# Altium schematic symbol library ip_phone.SchLib: 62 symbols
Pins are listed as number, name and electrical type; pins without a type are passive.

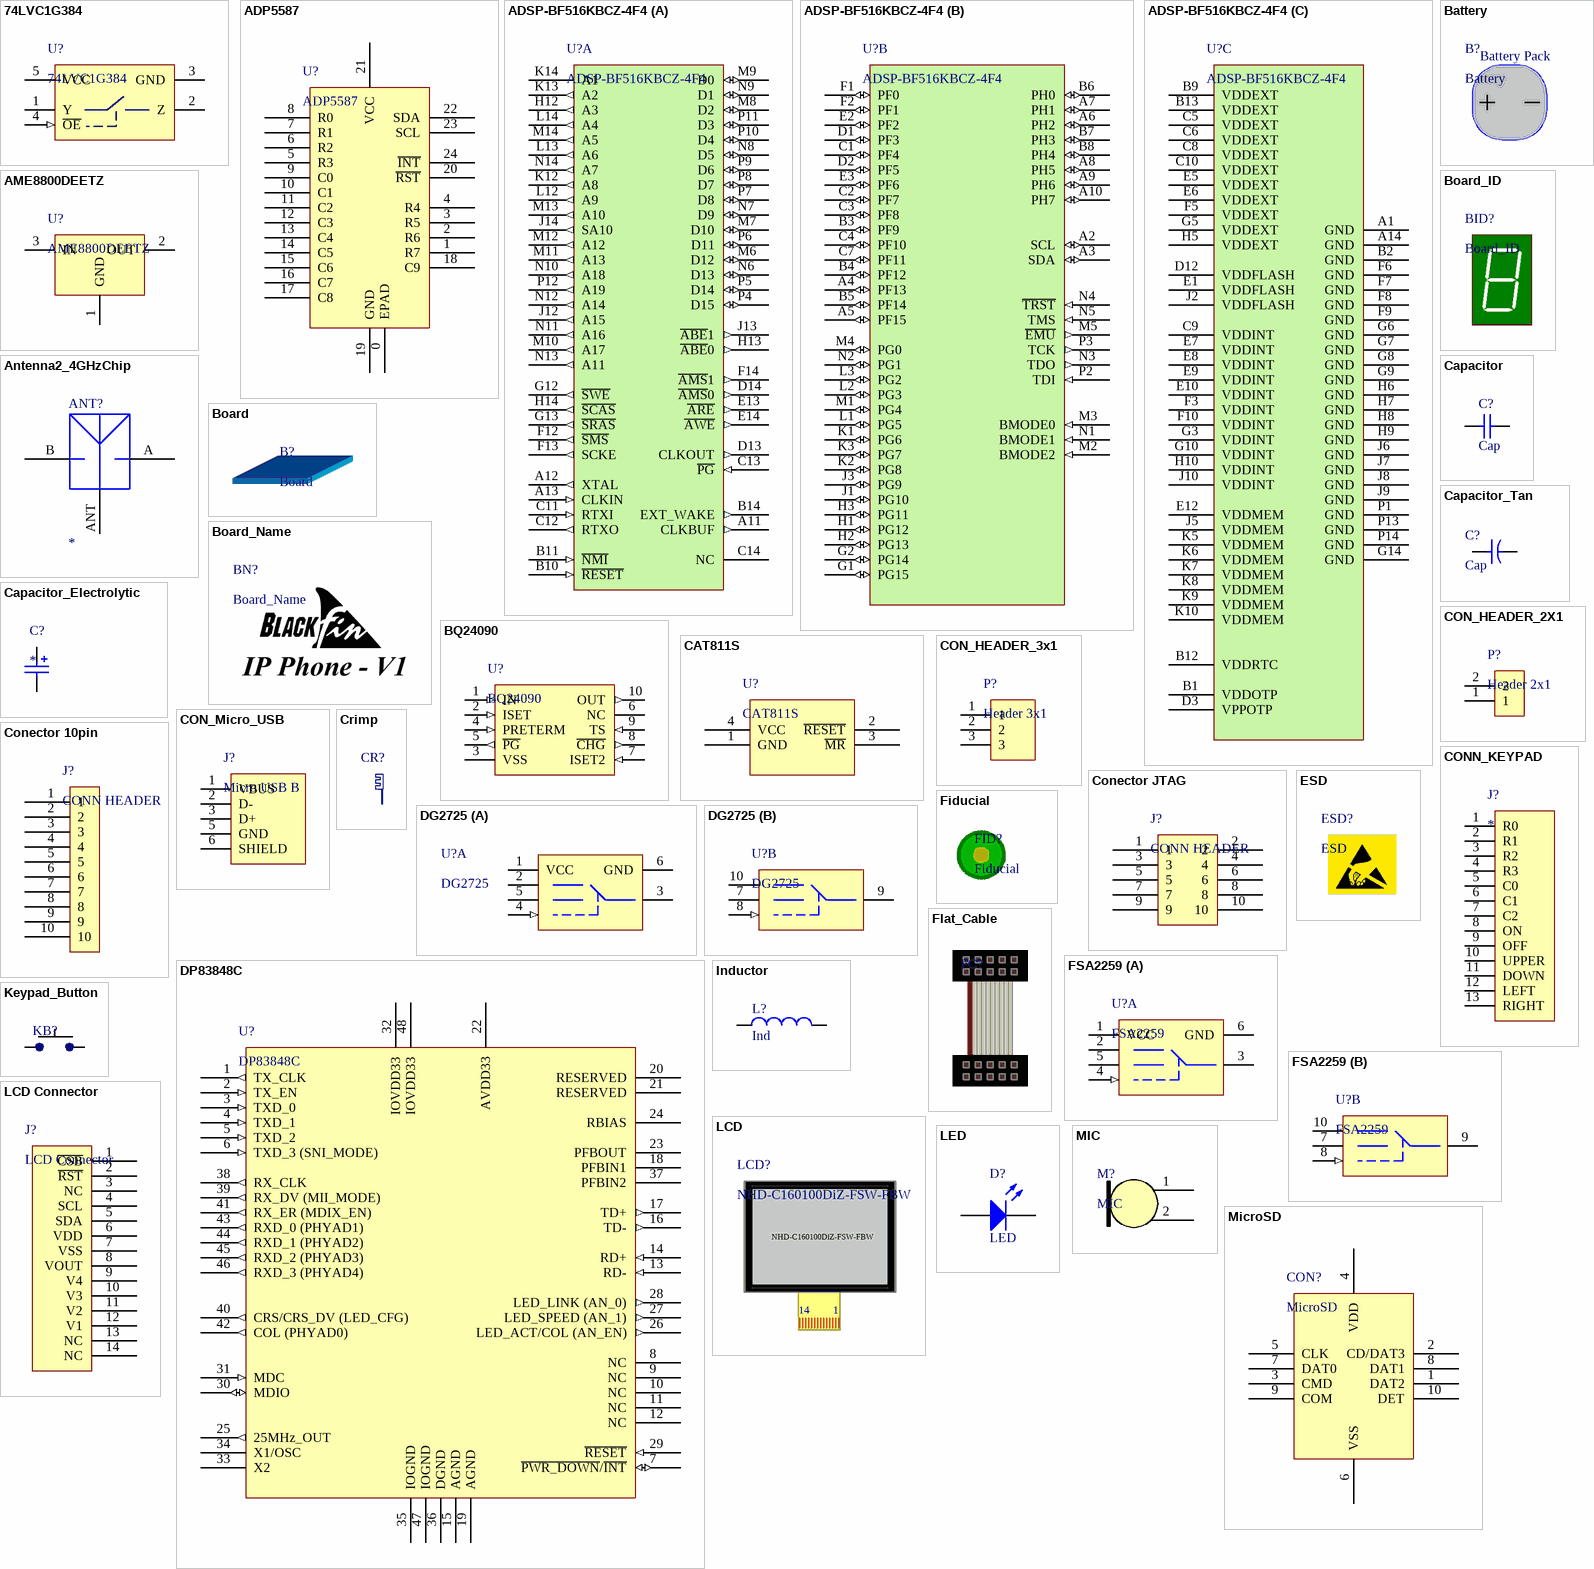
[diagram p0: symbols 74LVC1G384 to MicroSD]

## 74LVC1G384
designator U?
Low Voltage SPST Analog Switch; eVendorPart#: 771-LVC1G384GV125; Part#: 74LVC1G384GV,125; Manufacturer: NXP Semiconductors; eVendor: Mouser; eVendorPrice: 0,07; MSRP: 0,046; MOQ: 1000
footprint SOT753 (SOT23, 5-Leads, Body 3,1x3,0mm (max), Pitch 0,95mm, IPC Medium Density)
pins: 1 Y, 2 Z, 3 GND (power), 4 ~{OE} (in), 5 VCC (power)

## ADP5587
designator U?
IC Expander/Keyboard Controller; eVendorPart#: ADP5587ACPZ-R7CT-ND; Part#: ADP5587ACPZ-R7; Manufacturer: Analog Devices; eVendor: Digikey; MSRP: 1,725; eVendorPrice: 3,45; MOQ: 1000
footprint QFN-24 (ADP5588)
pins: 0 EPAD, 1 R7, 2 R6, 3 R5, 4 R4, 5 R3, 6 R2, 7 R1, 8 R0, 9 C0, 10 C1, 11 C2, 12 C3, 13 C4, 14 C5, 15 C6, 16 C7, 17 C8, 18 C9, 19 GND, 20 ~{RST}, 21 VCC, 22 SDA, 23 SCL, 24 ~{INT}

## ADSP-BF516KBCZ-4F4
designator U?
Low Power Blackfin with Advanced Embedded Connectivity; Manufacturer: Analog Device; eVendor: Avnet; eVendorPrice: 19,42; MSRP: 14,15; eVendorPart#: ADSP-BF516KBCZ-4F4; MOQ: 500; Part#: ADSP-BF516KBCZ-4F4
footprint BGA168 (BGA, 168-Leads, Body 12,0x12,0mm,  Pitch 0,80mm)
part A pins: A11 CLKBUF (out), A12 XTAL (out), A13 CLKIN (in), B10 ~{RESET} (in), B11 ~{NMI} (in), B14 EXT_WAKE (out), C11 RTXI (in), C12 RTXO (out), C13 ~{PG} (in), C14 NC, D13 CLKOUT (out), D14 ~{AMS}0 (out), E13 ~{ARE} (out), E14 ~{AWE} (out), F12 ~{SMS} (out), F13 SCKE (out), F14 ~{AMS}1 (out), G12 ~{SWE} (out), G13 ~{SRAS} (out), H12 A3 (out), H13 ~{ABE}0 (out), H14 ~{SCAS} (out), J12 A15 (out), J13 ~{ABE}1 (out), J14 SA10 (out), K12 A8 (out), K13 A2 (out), K14 A1, L12 A9 (out), L13 A6 (out), L14 A4 (out), M6 D12 (io), M7 D10 (io), M8 D2 (io), M9 D0 (io), M10 A17 (out), M11 A13 (out), M12 A12 (out), M13 A10 (out), M14 A5 (out), N6 D13 (io), N7 D9 (io), N8 D5 (io), N9 D1 (io), N10 A18 (out), N11 A16 (out), N12 A14 (out), N13 A11 (out), N14 A7 (out), P4 D15 (io), P5 D14 (io), P6 D11 (io), P7 D8 (io), P8 D7 (io), P9 D6 (io), P10 D4 (io), P11 D3 (io), P12 A19 (out)
part B pins: A2 SCL (io), A3 SDA (io), A4 PF13 (io), A5 PF15 (io), A6 PH2 (io), A7 PH1 (io), A8 PH5 (io), A9 PH6 (io), A10 PH7 (io), B3 PF9 (io), B4 PF12 (io), B5 PF14 (io), B6 PH0 (io), B7 PH3 (io), B8 PH4 (io), C1 PF4 (io), C2 PF7 (io), C3 PF8 (io), C4 PF10 (io), C7 PF11 (io), D1 PF3 (io), D2 PF5 (io), E2 PF2 (io), E3 PF6 (io), F1 PF0 (io), F2 PF1 (io), G1 PG15 (io), G2 PG14 (io), H1 PG12 (io), H2 PG13 (io), H3 PG11 (io), J1 PG10 (io), J3 PG9 (io), K1 PG6 (io), K2 PG8 (io), K3 PG7 (io), L1 PG5 (io), L2 PG3 (io), L3 PG2 (io), M1 PG4 (io), M2 BMODE2 (in), M3 BMODE0 (in), M4 PG0 (io), M5 ~{EMU} (out), N1 BMODE1 (in), N2 PG1 (io), N3 TDO (out), N4 ~{TRST} (in), N5 TMS (in), P2 TDI (in), P3 TCK (out)
part C pins: A1 GND (power), A14 GND (power), B1 VDDOTP (power), B2 GND (power), B9 VDDEXT (power), B12 VDDRTC (power), B13 VDDEXT (power), C5 VDDEXT (power), C6 VDDEXT (power), C8 VDDEXT (power), C9 VDDINT (power), C10 VDDEXT (power), D3 VPPOTP (power), D12 VDDFLASH (power), E1 VDDFLASH (power), E5 VDDEXT (power), E6 VDDEXT (power), E7 VDDINT (power), E8 VDDINT (power), E9 VDDINT (power), E10 VDDINT (power), E12 VDDMEM (power), F3 VDDINT (power), F5 VDDEXT (power), F6 GND (power), F7 GND (power), F8 GND (power), F9 GND (power), F10 VDDINT (power), G3 VDDINT (power), G5 VDDEXT (power), G6 GND (power), G7 GND (power), G8 GND (power), G9 GND (power), G10 VDDINT (power), G14 GND (power), H5 VDDEXT (power), H6 GND (power), H7 GND (power), H8 GND (power), H9 GND (power), H10 VDDINT (power), J2 VDDFLASH (power), J5 VDDMEM (power), J6 GND (power), J7 GND (power), J8 GND (power), J9 GND (power), J10 VDDINT (power), K5 VDDMEM (power), K6 VDDMEM (power), K7 VDDMEM (power), K8 VDDMEM (power), K9 VDDMEM (power), K10 VDDMEM (power), P1 GND (power), P13 GND (power), P14 GND (power)

## AME8800DEETZ
designator U?
Low Dropout (LDO) Regulators 2.5V 300mA CMOS; eVendorPart#: 827-AME8800DEETZ; Manufacturer: AME; eVendor: Mouser; eVendorPrice: 0,67; MSRP: 0,171; MOQ: 1000; Part#: AME8800DEETZ
footprint SOT-23 (AME8800AEETZ)
pins: 1 GND, 2 OUT, 3 IN

## Antenna2_4GHzChip
designator ANT?
Antenna 2.4GHz Ceramic Chip SMD; Manufacturer: TDK; eVendorPart#: 445-6134-1-ND; Part#: ANT040015CCS2442MA1; eVendorPrice: 5,94; eVendor: Digikey; MSRP: 3,15; MOQ: 1000
footprint ANTENNA
pins: A FEEDPOINT, ANT ANTENNA, B FIXINGELEC

## Battery
designator B?  (mechanical)
Li-Polymer battery PL714065, 3.7V 2000mAh cell; eVendorPart#: PC-714065; eVendor: HOLY TECHNOLOGY; eVendorPrice: 3,51; MSRP: 3,05; Manufacturer: HOLY TECHNOLOGY; MOQ: 1000; Part#: PC-714065
text: Battery Pack

## Board
designator B?
eVendor: *; eVendorPart#: *; Part#: *; eVendorPrice: *; MOQ: *; MSRP: *; Manufacturer: *

## Board_ID
designator BID?
eVendor: NÃO SE APLICA; eVendorPrice: 0,00; eVendorPart#: NÃO SE APLICA; Part#: NÃO SE APLICA; Manufacturer: NÃO SE APLICA; MOQ: 1000; MSRP: 0,00
footprint BOARD_ID

## Board_Name
designator BN?
eVendor: NÃO SE APLICA; eVendorPrice: 0,00; eVendorPart#: NÃO SE APLICA; Manufacturer: NÃO SE APLICA; MOQ: 1000; MSRP: 0,00; Part#: NÃO SE APLICA
footprint LOGO

## BQ24090
designator U?
1A,Sgl Inp,Sgl Cell Li-Ion Batt Charger; Manufacturer: Texas Instruments; Part#: BQ24090DGQT; eVendorPart#: 595-BQ24090DGQT; eVendor: Mouser; eVendorPrice: 2,76; MSRP: 1,16; MOQ: 1000
footprint MSOP10 (TSSOP, 10-Leads, Body 3,1x3,1mm (max), Pitch 0,50mm, IPC Medium Density)
pins: 1 IN (in), 2 ISET (in), 3 VSS (power), 4 PRETERM (in), 5 ~{PG} (out), 6 NC, 7 ISET2 (in), 8 ~{CHG} (out), 9 TS (in), 10 OUT (out)

## Capacitor
designator C?, comment Cap
Capacitor; eVendor: *; eVendorPrice: *; eVendorPart#: *; Manufacturer: *; Part#: *; MOQ: *; MSRP: *
footprint CC1005-0402 (Chip Capacitor; Body 1.0 x 0.5 mm (LxW typ))
footprint CC1608-0603 (Chip Capacitor; Body 1.6 x 0.8 mm (LxW typ))
footprint CC2012-0805 (Chip Capacitor; Body 2.0 x 1.2 mm (LxW typ))
footprint CC1005-0402_NP (Chip Capacitor; Body 1.0 x 0.5 mm (LxW typ))
footprint CC1608-0603_NP (Chip Capacitor; Body 1.6 x 0.8 mm (LxW typ))
pins: 1, 2

## Capacitor_Electrolytic
designator C?
Capacitor; eVendor: *; eVendorPrice: *; eVendorPart#: *; Part#: *; MOQ: *; MSRP: *; Manufacturer: *
footprint CAP_VE221 (Electrolytic Capacitor 220uF)
pins: 1, 2

## Capacitor_Tan
designator C?, comment Cap
Capacitor Tantalum; eVendor: *; eVendorPart#: *; Part#: *; eVendorPrice: *; MOQ: *; Manufacturer: *; MSRP: *
footprint C_Case_A
pins: 1, 2

## CAT811S
designator U?
IC Supervisor MPU 2.93V  SOT-143; Part#: CAT811STBI-GT3; Manufacturer: ON Semiconductor; eVendorPart#: 698-CAT811STBI-GT3; eVendor: Mouser; eVendorPrice: 0,22; MSRP: 0,156; MOQ: 1000
footprint SOT-143 (CAT811S)
pins: 1 GND, 2 ~{RESET}, 3 ~{MR}, 4 VCC

## CON_HEADER_2X1
designator P?, comment Header 2x1
CONN HEADER SH 2POS SIDE 1MM TIN; eVendorPart#: 455-1802-1-ND; Manufacturer: JST Sales America Inc; Part#: SM02B-SRSS-TB(LF)(SN); eVendor: Digikey; eVendorPrice: 0,38; MSRP: 0,23142; MOQ: 500
footprint HEADER 2X1
pins: 1, 2

## CON_HEADER_3x1
designator P?, comment Header 3x1
CONN HEADER 3POS 1.25MM R/A SMD; Manufacturer: JST Sales America Inc; Part#: S3B-XH-SM4-TB(LF)(SN); eVendorPart#: 455-2263-1-ND; eVendor: Digikey; eVendorPrice: 0,67; MSRP: 0,5125; MOQ: 100
footprint HEADER 3x1
pins: 1, 2, 3

## CON_Micro_USB
designator J?, comment Micro USB B
USB Connectors 5P Quick Connect Micro USB TypeB Rcpt; Manufacturer: FCI; Part#: 10103594-0001LF; eVendorPart#: 649-10103594-0001LF; eVendor: Mouser; eVendorPrice: 0,45; MSRP: 0,306; MOQ: 1000
footprint Micro USB
pins: 1 VBUS, 2 D-, 3 D+, 5 GND, 6 SHIELD

## Conector 10pin
designator J?, comment CONN HEADER
CONN HEADER .050" 10POS PCB GOLD; eVendorPart#: S9014E-10-ND; Manufacturer: Sullins Connector Solutions; Part#: GRPB101VWVN-RC; eVendor: Digikey; eVendorPrice: 0,66; MSRP: 0,32775; MOQ: 1000
footprint CONECTOR_10_PIN
pins: 1, 2, 3, 4, 5, 6, 7, 8, 9, 10

## Conector JTAG
designator J?, comment CONN HEADER
CONN HEADER .050" 5x2; eVendorPart#: S9012E-05-ND; Manufacturer: Sullins; Part#: GRPB052VWQS-RC; eVendor: Digikey; eVendorPrice: 0,95; MSRP: 0,47; MOQ: 1000
footprint CON_JTAG
pins: 1, 2, 3, 4, 5, 6, 7, 8, 9, 10

## CONN_KEYPAD
designator J?
Keypad Conector; eVendor: *; eVendorPrice: *; eVendorPart#: *; Part#: *; Manufacturer: *; MOQ: *; MSRP: *
pins: 1 R0, 2 R1, 3 R2, 4 R3, 5 C0, 6 C1, 7 C2, 8 ON, 9 OFF, 10 UPPER, 11 DOWN, 12 LEFT, 13 RIGHT

## Crimp
designator CR?  (value not drawn)  (mechanical)
Socket Crimp; eVendorPart#: 656-ILZC3A115000; Part#: IL-Z-C3-A-1-15000; Manufacturer: JAE Electronics; eVendor: Mouser; eVendorPrice: 0,05; MSRP: 0,049; MOQ: 1000

## DG2725
designator U?
Dual SPDT Analog Switch; eVendorPart#: 781-DG2725DN-T1-GE4; Part#: DG2725DN-T1-GE4; Manufacturer: Vishay/Siliconix; eVendor: Mouser; eVendorPrice: 0,69; MSRP: 0,30; MOQ: 1000
footprint QFN10 (QFN, 10-Leads, Body 1,5x1,9mm (max), Pitch 0,40mm, IPC Medium Density)
part A pins: 1 VCC, 2 NO1, 3 COM1, 4 IN1 (in), 5 NC1, 6 GND (power)
part B pins: 7 NC2, 8 IN2 (in), 9 COM2, 10 NO2

## DP83848C
designator U?
IC TXRX ETHERNET PHYTER 48-LQFP; Manufacturer: National Semiconductor; Part#: DP83848CVV/NOPB; eVendorPart#: DP83848CVV-ND; eVendor: Digikey; MSRP: 3,672; eVendorPrice: 6,8; MOQ: 1000
footprint LQFP48
pins: 1 TX_CLK (out), 2 TX_EN (in), 3 TXD_0 (in), 4 TXD_1 (in), 5 TXD_2 (in), 6 TXD_3 (SNI_MODE) (in), 7 ~{PWR_DOWN}/~{INT} (io), 8 NC, 9 NC, 10 NC, 11 NC, 12 NC, 13 RD- (in), 14 RD+ (in), 15 AGND (power), 16 TD- (out), 17 TD+ (out), 18 PFBIN1, 19 AGND (power), 20 RESERVED, 21 RESERVED, 22 AVDD33 (power), 23 PFBOUT, 24 RBIAS, 25 25MHz_OUT (out), 26 LED_ACT/COL (AN_EN) (out), 27 LED_SPEED (AN_1) (out), 28 LED_LINK (AN_0) (out), 29 ~{RESET} (in), 30 MDIO (io), 31 MDC (in), 32 IOVDD33 (power), 33 X2, 34 X1/OSC, 35 IOGND (power), 36 DGND (power), 37 PFBIN2, 38 RX_CLK (out), 39 RX_DV (MII_MODE) (out), 40 CRS/CRS_DV (LED_CFG) (out), 41 RX_ER (MDIX_EN) (out), 42 COL (PHYAD0) (out), 43 RXD_0 (PHYAD1) (out), 44 RXD_1 (PHYAD2) (out), 45 RXD_2 (PHYAD3) (out), 46 RXD_3 (PHYAD4) (out), 47 IOGND (power), 48 IOVDD33 (power)

## ESD
designator ESD?  (no BOM)
eVendor: NÃO SE APLICA; eVendorPrice: 0,00; eVendorPart#: NÃO SE APLICA; Part#: NÃO SE APLICA; MOQ: 0,00; MSRP: 0,00; Manufacturer: NÃO SE APLICA
footprint ESD

## Fiducial
designator FID?
eVendorPart#: NÃO SE APLICA; MSRP: 0,00; Manufacturer: NÃO SE APLICA; MOQ: 1000; Part#: NÃO SE APLICA; eVendor: NÃO SE APLICA; eVendorPrice: 0,00
footprint Fiducial

## Flat_Cable
designator FC?, comment Flat Cable  (value not drawn)  (mechanical)
eVendorPart#: SAM8218-ND; Manufacturer: Samtec; eVendor: Digikey; MSRP: 6,20; eVendorPrice: 10,76; MOQ: 1000; Part#: SAM8218-ND

## FSA2259
designator U?
Analog Switch, Dual SPDT; eVendorPart#: 512-FSA2259UMX; Manufacturer: Fairchild Semiconductor; Part#: FSA2259UMX; eVendor: Mouser; eVendorPrice: 0,68; MSRP: 0,22; MOQ: 1000
footprint QFN-10FSA
part A pins: 1 VCC, 2 1B1, 3 1A, 4 S1 (in), 5 1B0, 6 GND (power)
part B pins: 7 2B0, 8 S2 (in), 9 2A, 10 2B1

## Inductor
designator L?, comment Ind
Inductor; eVendor: *; eVendorPart#: *; eVendorPrice: *; Manufacturer: *; MOQ: *; MSRP: *; Part#: *
footprint INDUTOR_0402
footprint INDUTOR_0603
footprint POWER INDUCTOR
pins: 1, 2

## Keypad_Button
designator KB?  (value not drawn)  (no BOM)
eVendor: *; eVendorPart#: *; Part#: *; eVendorPrice: *; MOQ: *; MSRP: *; Manufacturer: *
footprint Keypad_Button
pins: 1, 2

## LCD
designator LCD?, comment NHD-C160100DiZ-FSW-FBW  (mechanical)
LCD; eVendorPart#: 763-C160100DIZFSWFBW; Manufacturer: Newhaven Display; eVendor: Mouser; eVendorPrice: 18,55; MSRP: 15,39; Part#: NHD-C160100DiZ-FSW-FBW; MOQ: 50
text: 14; 1

## LCD Connector
designator J?
eVendorPart#: 538-52892-1495; Manufacturer: Molex; Part#: 52892-1495; eVendor: Mouser; eVendorPrice: 1,27; MSRP: 0,45; MOQ: 1000
footprint LCD_Connector
pins: 1 ~{CSB}, 2 ~{RST}, 3 NC, 4 SCL, 5 SDA, 6 VDD, 7 VSS, 8 VOUT, 9 V4, 10 V3, 11 V2, 12 V1, 13 NC, 14 NC

## LED
designator D?
eVendor: *; eVendorPrice: *; MOQ: *; MSRP: *; Part#: *; Manufacturer: *; eVendorPart#: *
footprint LED_0603 (LED 0603)
footprint LED 3MM AMARELO PF-D3
footprint LED 3MM VERDE PF-D3
footprint LED 3MM VERMELHO PF-D3
pins: 1 A, 2 K

## MIC
designator M?
Microphones -38DB 2VDC .5MA 2.2KOHM; Part#: POM-2738P-C33-R; Manufacturer: PUI Audio; eVendorPart#: 665-POM2738PC33R; eVendor: Mouser; eVendorPrice: 1,98; MSRP: 1,13; MOQ: 500
footprint MIC
footprint CON_IL-Z-2PL (Connector)
pins: 1 OUT, 2 GND (power)

## MicroSD
designator CON?
CONN MEMORY CARD SD SMD; Manufacturer: AVX Corporation; Part#: 045138008010890+; eVendorPart#: 478-4965-1-ND; MSRP: 2,394; eVendorPrice: 3,86; eVendor: Digikey; MOQ: 1000
footprint MICRO_SD
pins: 1 DAT2, 2 CD/DAT3, 3 CMD, 4 VDD, 5 CLK, 6 VSS, 7 DAT0, 8 DAT1, 9 COM, 10 DET

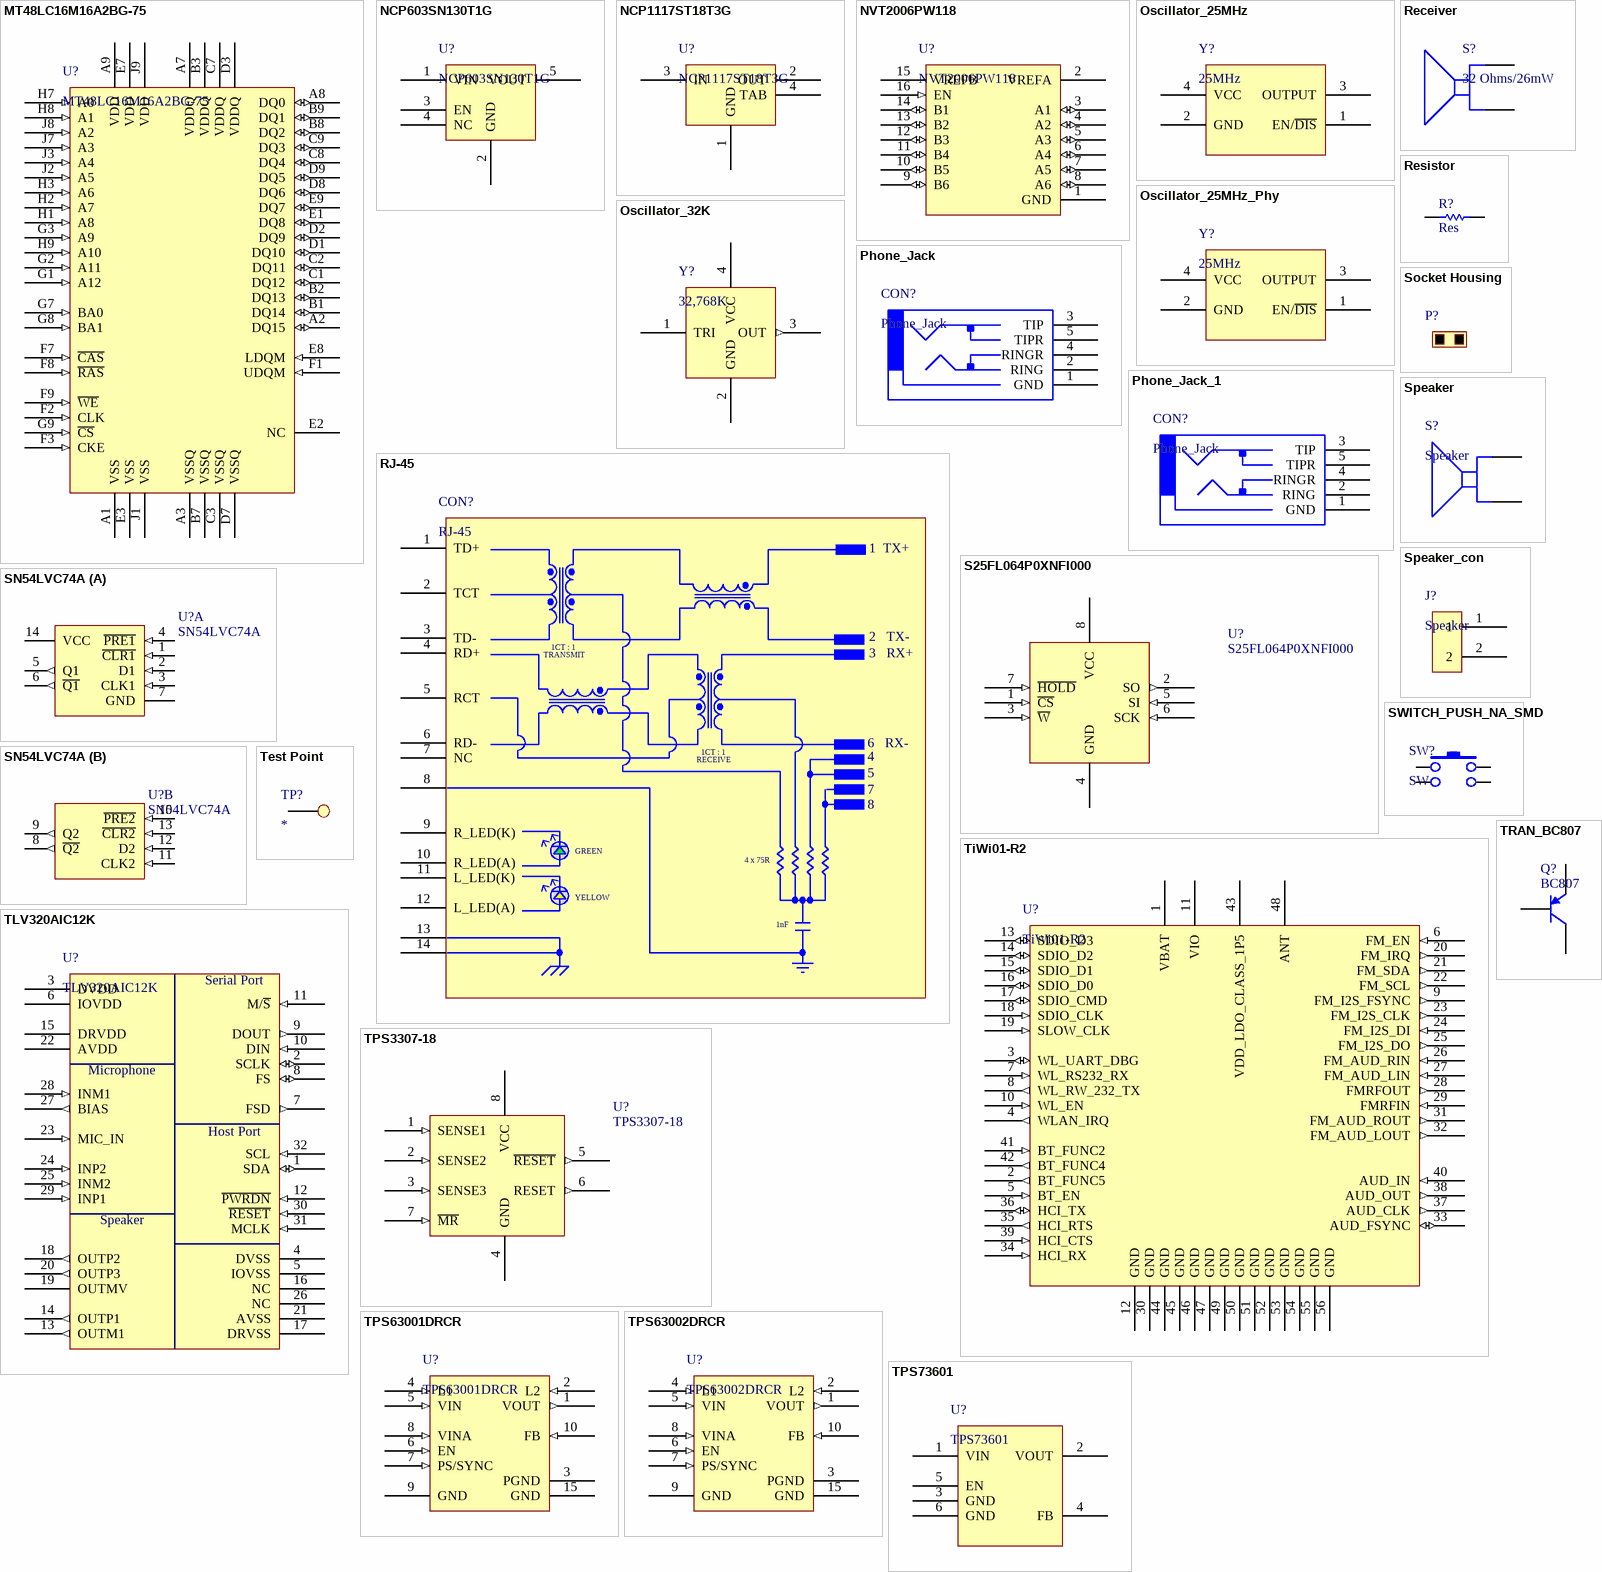
[diagram p1: symbols MT48LC16M16A2BG-75 to TRAN_BC807]

## MT48LC16M16A2BG-75
designator U?
SDRAM 256M-Bit 16Mx16 3.3V 54-Pin VFBGA Tray; eVendorPart#: MT48LC16M16A2BG-75 IT:D; Manufacturer: Micron; eVendor: Avnet; eVendorPrice: 9,23; MSRP: 8,33; MOQ: 100; Part#: MT48LC16M16A2BG-75 IT:D
footprint VFBGA54
pins: A1 VSS (power), A2 DQ15 (io), A3 VSSQ (power), A7 VDDQ (power), A8 DQ0 (io), A9 VDD (power), B1 DQ14 (io), B2 DQ13 (io), B3 VDDQ (power), B7 VSSQ (power), B8 DQ2 (io), B9 DQ1 (io), C1 DQ12 (io), C2 DQ11 (io), C3 VSSQ (power), C7 VDDQ (power), C8 DQ4 (io), C9 DQ3 (io), D1 DQ10 (io), D2 DQ9 (io), D3 VDDQ (power), D7 VSSQ (power), D8 DQ6 (io), D9 DQ5 (io), E1 DQ8 (io), E2 NC, E3 VSS (power), E7 VDD (power), E8 LDQM (in), E9 DQ7 (io), F1 UDQM (in), F2 CLK (in), F3 CKE (in), F7 ~{CAS} (in), F8 ~{RAS} (in), F9 ~{WE} (in), G1 A12 (in), G2 A11 (in), G3 A9 (in), G7 BA0 (in), G8 BA1 (in), G9 ~{CS} (in), H1 A8 (in), H2 A7 (in), H3 A6 (in), H7 A0 (in), H8 A1 (in), H9 A10 (in), J1 VSS (power), J2 A5 (in), J3 A4 (in), J7 A3 (in), J8 A2 (in), J9 VDD (power)

## NCP603SN130T1G
designator U?
Low Dropout (LDO) Regulators 300mA CMOS LDO REG WITH ENABLE; eVendorPart#: 863-NCP603SN130T1G; Manufacturer: ON Semiconductor; eVendor: Mouser; eVendorPrice: 0,51; MSRP: 0,364; MOQ: 1000; Part#: NCP603SN130T1G
footprint SOT23-5 (SOT23, 5-Leads, Body 3,0x3,0mm (max), Pitch 0,95mm, IPC Medium Density)
pins: 1 VIN (power), 2 GND (power), 3 EN, 4 NC, 5 VOUT (power)

## NCP1117ST18T3G
designator U?
Low Dropout (LDO) Regulators 1.8V 1A Positive; eVendorPart#: 863-NCP1117ST18T3G; Manufacturer: ON Semiconductor; eVendor: Mouser; eVendorPrice: 0,35; MSRP: 0,171; Part#: NCP1117ST18T3G; MOQ: 1000
footprint SOT223 (SOT223, 4-Leads, Body 6,7x7,3mm (max), Pitch 2,30mm, IPC Medium Density)
pins: 1 GND (power), 2 OUT (power), 3 IN (power), 4 TAB (power)

## NVT2006PW118
designator U?
Translation - Voltage Levels +/-50mA 1.5ns 2.1-5V; eVendorPart#: 771-NVT2006PW118; Manufacturer: NXP Semiconductors; Part#: NVT2006PW,118; eVendor: Mouser; eVendorPrice: 0,76; MSRP: 0,375; MOQ: 1000
footprint TSSOP16 (TSOP, 16-Leads, Body 5,1x4,5mm (max), Pitch 0,65mm, IPC Medium Density)
pins: 1 GND (power), 2 VREFA (power), 3 A1 (io), 4 A2 (io), 5 A3 (io), 6 A4 (io), 7 A5 (io), 8 A6 (io), 9 B6 (io), 10 B5 (io), 11 B4 (io), 12 B3 (io), 13 B2 (io), 14 B1 (io), 15 VREFB (power), 16 EN (in)

## Oscillator_25MHz
designator Y?, comment 25MHz
Crystal Clock Oscillator 25MHz  50ppm 3.3V; eVendorPart#: 300-8254-1-ND; Part#: ASFL1-25.000MHZ-EC-T; Manufacturer: ABRACON; eVendor: Digikey; eVendorPrice: 2,55; MSRP: 1,292; MOQ: 1000
footprint OSC_25MHz
pins: 1 EN/~{DIS}, 2 GND, 3 OUTPUT, 4 VCC

## Oscillator_25MHz_Phy
designator Y?, comment 25MHz
Standard Clock Oscillators 3.3V 25MHZ; eVendorPart#: 815-ASV-25-EJ-T; Part#: ASV-25.000MHZ-EJ-T; Manufacturer: ABRACON; eVendor: Mouser; eVendorPrice: 2,89; MSRP: 1,12; MOQ: 1000
footprint OSC_25MHz_PHY
pins: 1 EN/~{DIS}, 2 GND, 3 OUTPUT, 4 VCC

## Oscillator_32K
designator Y?, comment 32,768K
Standard Clock Oscillators 32.768KHz 1.8V -40C +85C 25ppm; eVendorPart#: 815-ASEK2-32.7K-LRT; Manufacturer: Abracon; Part#: ASEK2-32.768KHz-LRT; eVendor: Mouser; eVendorPrice: 3,66; MSRP: 2,44; MOQ: 500
footprint OSCILLATOR_32K
pins: 1 TRI, 2 GND (power), 3 OUT (out), 4 VCC (power)

## Phone_Jack
designator CON?
CONN JACK STEREO 5PIN 3.5MM; eVendorPart#: 502-35RAPC4BHN2; Manufacturer: Switchcraft; Part#: 35RAPC4BHN2; eVendorPrice: 1,02; eVendor: Mouser; MSRP: 0,636; MOQ: 1000
footprint Phone_Jack - 3.5
pins: 1 GND, 2 RING, 3 TIP, 4 RINGR, 5 TIPR

## Phone_Jack_1
designator CON?, comment Phone_Jack
eVendorPart#: CP1-2535SJCT-ND; Manufacturer: CUI Inc; Part#: SJ1-2535-SMT; eVendorPrice: 0,75; eVendor: Digikey; MSRP: 0,415; MOQ: 1000
footprint Phone_Jack
pins: 1 GND, 2 RING, 3 TIP, 4 RINGR, 5 TIPR

## Receiver
designator S?, comment 32 Ohms/26mW
Dynamic Receiver 32Ohms 26mW 115dB 13mm D; eVendorPart#: 254-DR132-RO; manufacturer: Kobitone; eVendor: Mouser; eVendorPrice: 1,98; MSRP: 1,52; MOQ: 1000; Part#: 254-DR132-RO
pins: 1 CKT1, 2 CKT2

## Resistor
designator R?, comment Res
Resistor; eVendor: *; eVendorPrice: *; Manufacturer: *; MSRP: *; MOQ: *; Part#: *
footprint CR1005-0402 (Chip Resistor; Body 1.1 x 0.5 mm (LxW typ))
footprint CR1608-0603 (Chip Resistor; Body 1.6 x 0.8 mm (LxW typ))
footprint CR2012-0805 (Chip Capacitor; Body 2.0 x 1.2 mm (LxW typ))
footprint CR1005-0402_NP (Chip Resistor; Body 1.1 x 0.5 mm (LxW typ))
footprint CR1608-0603_NP (Chip Resistor; Body 1.6 x 0.8 mm (LxW typ))
footprint CR3225-1210 (Chip Capacitor; Body 3.2 x 2.5 mm (LxW typ))
pins: 1, 2

## RJ-45
designator CON?
Ethernet & Telecom Connectors 1X1 RJ45 JACK; eVendorPart#: 673-J1012F01C; Part#: J1012F01C; Manufacturer: Pulse; eVendor: Mouser; eVendorPrice: 7,86; MSRP: 3,86; MOQ: 1000
footprint RJ-45
pins: 1 TD+, 2 TCT, 3 TD-, 4 RD+, 5 RCT, 6 RD-, 7 NC, 8 GND, 9 R_LED(K), 10 R_LED(A), 11 L_LED(K), 12 L_LED(A), 13 GND, 14 GND
text: 1  TX+; 2   TX-; 1CT : 1; TRANSMIT; 3   RX+; 6   RX-; RECEIVE; GREEN; 4 x 75R; YELLOW; 1nF

## S25FL064P0XNFI000
designator U?
Flash Mem Serial-SPI 3V/3.3V 64M-Bit 64M x 1 8ns 8-Pin WSON Tray; Manufacturer: Spansion; eVendor: Avnet; eVendorPrice: 1,99; MSRP: 1,88; eVendorPart#: S25FL064P0XNFI000; Part#: S25FL064P0XNFI000; MOQ: 100
footprint WSON8 (WSON, 8-Leads, Body 6,0x8,0mm (max), Pitch 1,27mm, IPC Medium Density)
pins: 1 ~{CS} (in), 2 SO (out), 3 ~{W} (in), 4 GND (power), 5 SI (in), 6 SCK (in), 7 ~{HOLD} (in), 8 VCC (power)

## SN54LVC74A
designator U?
Dual D-Type Flip-Flop with Set and Reset; Manufacturer: Texas Instruments; Part#: SN74LVC74ADR; eVendorPart#: 595-SN74LVC74ADR; eVendor: Mouser; eVendorPrice: 0,50; MSRP: 0,138; MOQ: 1000
footprint SOIC14
part A pins: 1 ~{CLR1} (in), 2 D1 (in), 3 CLK1 (in), 4 ~{PRE1} (in), 5 Q1 (out), 6 ~{Q1} (out), 7 GND (power), 14 VCC (power)
part B pins: 8 ~{Q2} (out), 9 Q2 (out), 10 ~{PRE2} (in), 11 CLK2 (in), 12 D2 (in), 13 ~{CLR2} (in)

## Socket Housing
designator P?  (value not drawn)  (mechanical)
Socket Housing 1.25mm 2 Pins; eVendorPart#: 656-IL-Z-2S-S125C3; Part#: IL-Z-2S-S125C3; Manufacturer: JAE Electronics; eVendor: Mouser; eVendorPrice: 0,11; MSRP: 0,042; MOQ: 1000

## Speaker
designator S?  (mechanical)
eVendor: *; eVendorPart#: *; Part#: *; eVendorPrice: *; MOQ: *; MSRP: *; Manufacturer: *
footprint Speaker
pins: 1 CKT1, 2 CKT2

## Speaker_con
designator J?, comment Speaker
Connector 2 Pin 1.25mm Male; eVendorPart#: 656-IL-Z-2PL-SMTYE; Manufacturer: JAE Electronics; Part#: IL-Z-2PL-SMTYE; eVendor: Mouser; eVendorPrice: 0,33; MSRP: 0,22; MOQ: 1000
footprint CON_IL-Z-2PL (Connector)
pins: 1, 2

## SWITCH_PUSH_NA_SMD
designator SW?, comment SW
Switch tact, SMT, SPST, 160gf, 5.25 mm L x 5.25 mm W x 1.5 mm H; Manufacturer: C&K Components; Part#: PTS525SM10SMTR LFS; eVendorPart#: 611-PTS525SM10-LFS; eVendor: Mouser; eVendorPrice: 0,48; MSRP: 0,244; MOQ: 1000
footprint PUSH-PTS525
pins: 1, 2, 3, 4

## Test Point
designator TP?  (no BOM)
eVendor: NÃO SE APLICA; eVendorPrice: 0,00; eVendorPart#: NÃO SE APLICA; Part#: NÃO SE APLICA; Manufacturer: NÃO SE APLICA; MOQ: 1000; MSRP: 0,00
footprint Test Point
pins: 1

## TiWi01-R2
designator U?
WiFi / 802.11 TiWi01-R2 Module with U.FL Connector; eVendorPart#: 741-450-0037; Manufacturer: LS Research; Part#: 450-0037; eVendor: Mouser; eVendorPrice: 32,55; MSRP: 30,80; MOQ: 100
footprint WIFI_MODULE
pins: 1 VBAT (power), 2 BT_FUNC5 (out), 3 WL_UART_DBG (io), 4 WLAN_IRQ (out), 5 BT_EN (in), 6 FM_EN (in), 7 WL_RS232_RX (in), 8 WL_RW_232_TX (out), 9 FM_I2S_FSYNC (out), 10 WL_EN (in), 11 VIO (power), 12 GND (power), 13 SDIO_D3 (io), 14 SDIO_D2 (io), 15 SDIO_D1 (io), 16 SDIO_D0 (io), 17 SDIO_CMD (io), 18 SDIO_CLK (in), 19 SLOW_CLK (in), 20 FM_IRQ (out), 21 FM_SDA (out), 22 FM_SCL (out), 23 FM_I2S_CLK (out), 24 FM_I2S_DI (in), 25 FM_I2S_DO (out), 26 FM_AUD_RIN (in), 27 FM_AUD_LIN (in), 28 FMRFOUT (out), 29 FMRFIN (in), 30 GND (power), 31 FM_AUD_ROUT (out), 32 FM_AUD_LOUT (out), 33 AUD_FSYNC (io), 34 HCI_RX (in), 35 HCI_RTS (out), 36 HCI_TX (io), 37 AUD_CLK (out), 38 AUD_OUT (out), 39 HCI_CTS (in), 40 AUD_IN (in), 41 BT_FUNC2 (in), 42 BT_FUNC4 (out), 43 VDD_LDO_CLASS_1P5, 44 GND (power), 45 GND (power), 46 GND (power), 47 GND (power), 48 ANT, 49 GND (power), 50 GND (power), 51 GND (power), 52 GND (power), 53 GND (power), 54 GND (power), 55 GND (power), 56 GND (power)

## TLV320AIC12K
designator U?
IC Codec 16 bits 26KSPS 32VQFN; Manufacturer: Texas Instruments; Part#: TLV320AIC12KIRHBR; eVendorPart#: 296-21521-1-ND; eVendor: Digikey; eVendorPrice: 4,8; MSRP: 2,4; MOQ: 1000
footprint PVQFN-32 (QFN, 32-Leads, Body 5.2x5.2mm (max), Pitch 0.50mm, IPC Medium Density)
pins: 1 SDA (io), 2 SCLK (io), 3 DVDD (power), 4 DVSS (power), 5 IOVSS (power), 6 IOVDD (power), 7 FSD (out), 8 FS (io), 9 DOUT (out), 10 DIN (in), 11 M/~{S} (in), 12 ~{PWRDN} (in), 13 OUTM1 (out), 14 OUTP1 (out), 15 DRVDD (power), 16 NC (hiz), 17 DRVSS (power), 18 OUTP2 (out), 19 OUTMV (power), 20 OUTP3 (out), 21 AVSS (power), 22 AVDD (power), 23 MIC_IN (in), 24 INP2 (in), 25 INM2 (in), 26 NC (hiz), 27 BIAS (out), 28 INM1 (in), 29 INP1 (in), 30 ~{RESET} (in), 31 MCLK (in), 32 SCL (in)
text: Serial Port; Microphone; Host Port; Speaker

## TPS3307-18
designator U?
Supervisory Circuits TRIPLE PROCESSOR; eVendorPart#: 595-TPS3307-18D; Manufacturer: Texas Instruments; Part#: TPS3307-18D; eVendor: Mouser; eVendorPrice: 3,50; MSRP: 1,75; MOQ: 1000
footprint SOIC8
pins: 1 SENSE1 (in), 2 SENSE2 (in), 3 SENSE3 (in), 4 GND (power), 5 ~{RESET} (out), 6 RESET (out), 7 ~{MR} (in), 8 VCC (power)

## TPS63001DRCR
designator U?
HIGH EFFICIENT SINGLE INDUCTOR BUCK-BOOST CONVERTER WITH 1.8-A SWITCHES; eVendorPart#: 296-19643-1-ND; Manufacturer: Texas Instruments; eVendor: Digikey; eVendorPrice: 4,5; MSRP: 2,25; MOQ: 1000; Part#: TPS63001DRCR
footprint SON10 (SON, 14-Leads, Body 3,2x3,2mm (max), Pitch 0,50mm, IPC Medium Density)
pins: 1 VOUT (out), 2 L2 (in), 3 PGND (power), 4 L1 (in), 5 VIN (in), 6 EN (in), 7 PS/SYNC (in), 8 VINA (in), 9 GND (power), 10 FB (in), 15 GND (power)

## TPS63002DRCR
designator U?
IC BUCK/BOOST SYNC 5V 10SON; eVendorPart#: 296-19644-1-ND; Manufacturer: Texas Instruments; eVendor: Digikey; eVendorPrice: 4,5; MSRP: 2,25; MOQ: 1000; Part#: TPS63002DRCR
footprint SON10 (SON, 14-Leads, Body 3,2x3,2mm (max), Pitch 0,50mm, IPC Medium Density)
pins: 1 VOUT (out), 2 L2 (in), 3 PGND (power), 4 L1 (in), 5 VIN (in), 6 EN (in), 7 PS/SYNC (in), 8 VINA (in), 9 GND (power), 10 FB (in), 15 GND (power)

## TPS73601
designator U?
LDO Regulator; Part#: TPS73601DCQR; eVendorPart#: 595-TPS73601DCQR; Manufacturer: Texas Instruments; eVendor: Mouser; eVendorPrice: 2,25; MSRP: 1,17; MOQ: 1000
footprint SOT223 - 6P
pins: 1 VIN, 2 VOUT, 3 GND, 4 FB, 5 EN, 6 GND

## TRAN_BC807
designator Q?, comment BC807
45 V, 500 mA PNP general-purpose transistors; Manufacturer: ON Semiconductor; Part#: BC807-25WT1G; eVendorPart#: 863-BC807-25WT1G; eVendor: Mouser; eVendorPrice: 0,03; MSRP: 0,017; MOQ: 1000
footprint SOT323_N (SOT323, 3-Leads, Body 2.0x1.3mm, Pitch 0.65mm, Lead Span 2.1mm, IPC Medium Density)
pins: 1 B, 2 E, 3 C

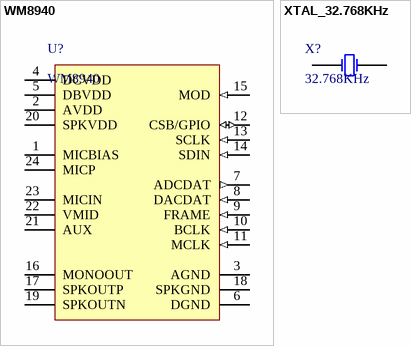
[diagram p2: symbols WM8940 to XTAL_32.768KHz]

## WM8940
designator U?
Mono Audio CODEC; eVendorPart#: 238-WM8940GEFL/V; Part#: WM8940GEFL/V; Manufacturer: Wolfson Microelectronics; eVendor: Mouser; eVendorPrice: 2,82; MSRP: 1,70; MOQ: 1000
footprint QFN24 (WM8940)
pins: 1 MICBIAS, 2 AVDD (power), 3 AGND (power), 4 DCVDD (power), 5 DBVDD (power), 6 DGND (power), 7 ADCDAT (out), 8 DACDAT (in), 9 FRAME (in), 10 BCLK (in), 11 MCLK (in), 12 CSB/GPIO (io), 13 SCLK (in), 14 SDIN (in), 15 MOD (in), 16 MONOOUT, 17 SPKOUTP, 18 SPKGND, 19 SPKOUTN, 20 SPKVDD (power), 21 AUX, 22 VMID, 23 MICIN, 24 MICP

## XTAL_32.768KHz
designator X?, comment 32.768KHz
Crystal 32.768KHz; eVendorPart#: 732-MC30632.7680KA0R; Part#: MC-306 32.7680K-A0:ROHS; Manufacturer: Epson; eVendor: Mouser; eVendorPrice: 0,95; MSRP: 0,378; MOQ: 1000
footprint XTAL_32.768kHz (XTAL)
pins: 1 OSC1, 4 OSC2